# Altium schematic symbol library CONNECTORS_3D.SchLib: 60 symbols
Pins are listed as number, name and electrical type; pins without a type are passive.

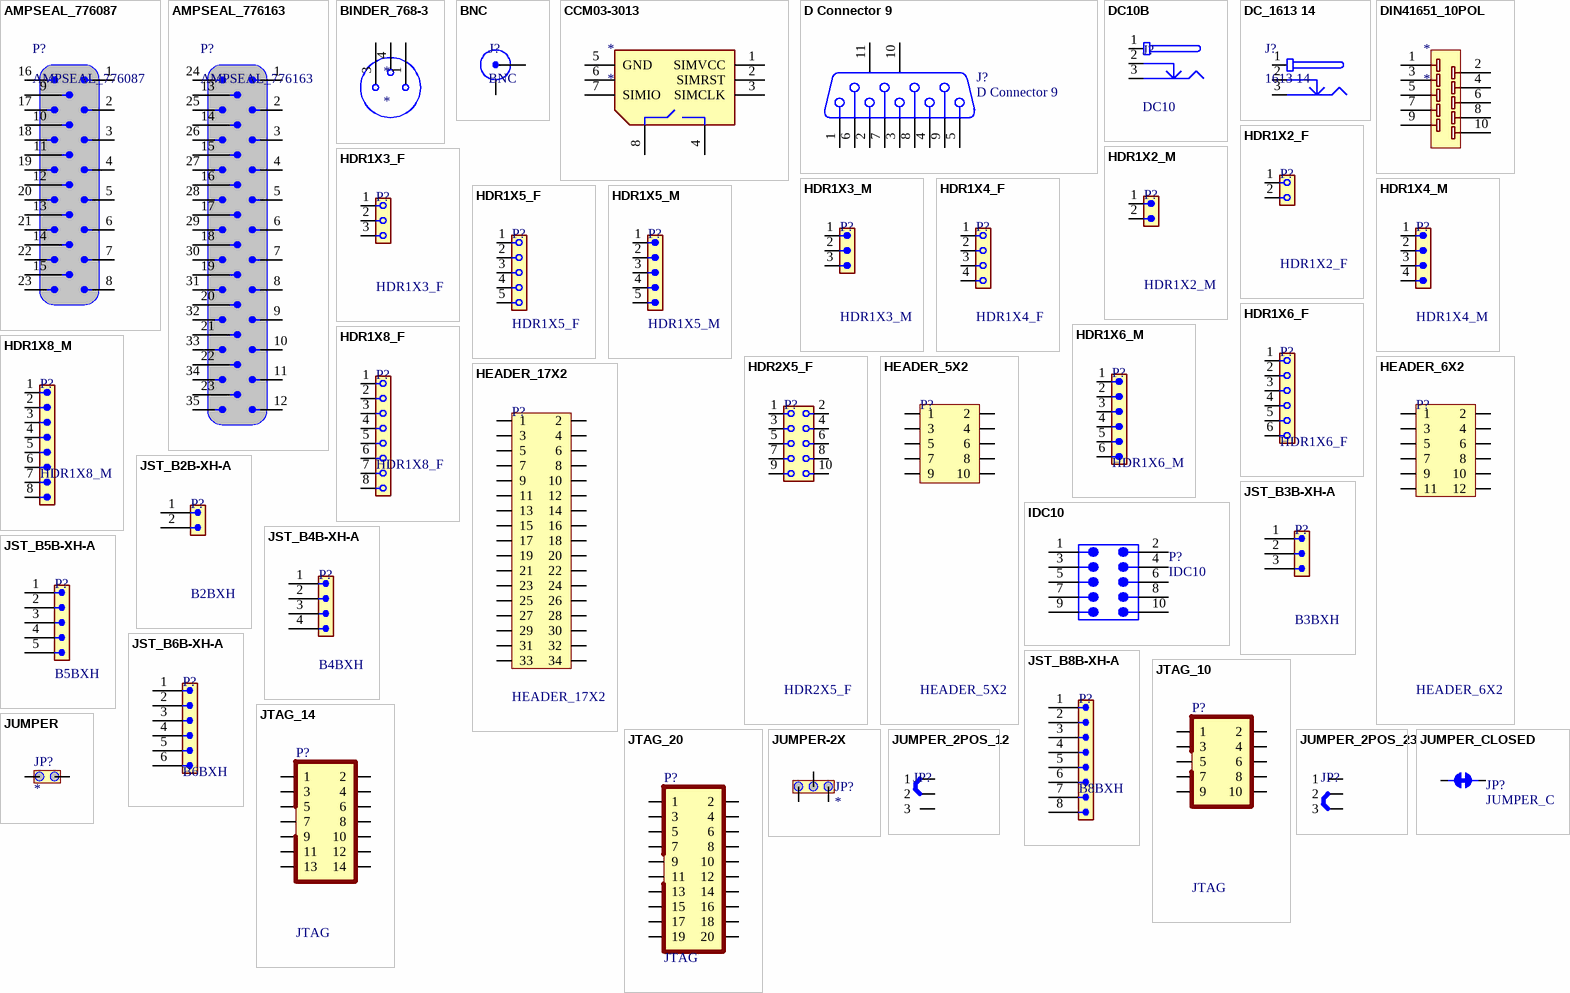
[diagram p0: symbols AMPSEAL_776087 to JUMPER_CLOSED]

## AMPSEAL_776087
designator P?
PCB Connector 23pos
footprint AMPSEAL_776087 (23 posistions, male)
pins: 1, 2, 3, 4, 5, 6, 7, 8, 9, 10, 11, 12, 13, 14, 15, 16, 17, 18, 19, 20, 21, 22, 23

## AMPSEAL_776163
designator P?
PCB Connector 35pos
footprint AMPSEAL_776163 (35 posistions, male)
pins: 1, 2, 3, 4, 5, 6, 7, 8, 9, 10, 11, 12, 13, 14, 15, 16, 17, 18, 19, 20, 21, 22, 23, 24, 25, 26, 27, 28, 29, 30, 31, 32, 33, 34, 35

## BINDER_768-3
designator *
footprint BINDER_768-3 (Chassis Jack 99-3412-282-03)
pins: 1, 3, 4

## BNC
designator J?
BNC-Connector
footprint BNC_VERT
footprint BNC_PCB90 (BNC TYCO 5227677)
footprint F_CON_RA (F-TYPE Right Angular)
pins: 1 SIG, 2 GND

## CCM03-3013
designator *
footprint CCM03-3013 (SIM-Card Holder)
pins: 1 SIMVCC, 2 SIMRST, 3 SIMCLK, 4 SW1, 5 GND, 6, 7 SIMIO, 8 SW2

## D Connector 9
designator J?
Receptacle Assembly, 9 Position, Right Angle; PackageDocument: O; Positions: 9; Published: 15-Jun-2001; LatestRevisionDate: 17-Jul-2002; LatestRevisionNote: Re-released for DXP Platform.; DatasheetDocument: 1-Sep-1999; PackageReference: 788750; Publisher: Altium Limited; Orientation: Right Angle; Gender: Receptacle
footprint DSUB1.385-2H9 (Connector; D Subminiature; 9 Position; Right Angle; Pitch 1.385 mm)
signal-integrity model Connector
pins: 1, 2, 3, 4, 5, 6, 7, 8, 9, 10 MH1, 11 MH2

## DC10B
designator J?, comment DC10
Low Voltage Power Supply Connector; Published: 17-Dec-2003; DatasheetDocument: 09-May-2002; Publisher: Altium Limited; ComponentLink1Description: Manufacturer Link; ComponentLink1URL: http://domino.kycon.com/internet/Products.html
footprint DC-10A (DC Connector, 5,5/2,1mm)
footprint DC-10A_SLIT (DC Connector, 5,5/2,1mm)
footprint DC-10B (DC Connector, 5,5/2,5mm)
footprint DC-10B_SLIT (DC Connector, 5,5/2,5mm)
pins: 1 (power), 2 (power), 3 (power)

## DC_1613 14
designator J?, comment 1613 14
Power supply connectors 2x6.5mm 24V 3.5A
pins: 1 (power), 2 (power), 3 (power)

## DIN41651_10POL
designator *
footprint DIN41651_10P (IDC, 10 Pos; Vertical; 2.54 mm; Body 20.32 x 9.2 x 9.45 mm)
pins: 1, 2, 3, 4, 5, 6, 7, 8, 9, 10

## HDR1X2_F
designator P?
Header, 2-Pin female; Publisher: Bep1
footprint HDR1X2_V_F (Header 2 pos, vertical, female)
pins: 1, 2

## HDR1X2_M
designator P?
Header, 2-Pin male; Publisher: Bep1
footprint HDR1X2_V_M (Connector; Header; 2 Position male)
pins: 1, 2

## HDR1X3_F
designator P?
Header, 3-Pin female; Publisher: Bep1
footprint HDR1X3_V_F (Header 3 pos, vertical, female)
pins: 1, 2, 3

## HDR1X3_M
designator P?
Header, 3-Pin male; LatestRevisionDate: 17-Jul-2002; LatestRevisionNote: Re-released for DXP Platform.; Publisher: Altium Limited
footprint HDR1X3_V_M (Connector; Header; 3 Position male)
pins: 1, 2, 3

## HDR1X4_F
designator P?
Header, 4-Pin female; Publisher: Bep1
footprint HDR1X4_V_F (Header 4 pos, vertical, female)
pins: 1, 2, 3, 4

## HDR1X4_M
designator P?
Header, 4-Pin male; Publisher: Bep1
footprint HDR1X4_V_M (Header 4 pos, vertical male)
pins: 1, 2, 3, 4

## HDR1X5_F
designator P?
Header, 5-Pin female; Publisher: Bep1
footprint HDR1X5_V_F (Header 5 pos, vertical, female)
pins: 1, 2, 3, 4, 5

## HDR1X5_M
designator P?
Header, 5-Pin male; Publisher: Bep1
footprint HDR1X5_V_M (Header 5 pos, vertical male)
pins: 1, 2, 3, 4, 5

## HDR1X6_F
designator P?
Header, 6-Pin female; Publisher: Bep1
footprint HDR1X6_V_F (Header 6 pos, vertical, female)
pins: 1, 2, 3, 4, 5, 6

## HDR1X6_M
designator P?
Header, 6-Pin male; Publisher: Bep1
footprint HDR1X6_V_M (Header 6 pos, vertical male)
pins: 1, 2, 3, 4, 5, 6

## HDR1X8_F
designator P?
Header, 8-Pin female; Publisher: Bep1
footprint HDR1X8_V_F (Connector; Header; 8 Position female)
pins: 1, 2, 3, 4, 5, 6, 7, 8

## HDR1X8_M
designator P?
Header, 8-Pin male; Publisher: Bep1
footprint HDR1X8_V_M (Connector; Header; 8 Position male)
pins: 1, 2, 3, 4, 5, 6, 7, 8

## HDR2X5_F
designator P?
Header, 10-Pin, Dual row; Publisher: Bep1
footprint HDR2X5_V_F (Header 5 pos, vertical, female)
pins: 1, 2, 3, 4, 5, 6, 7, 8, 9, 10

## HEADER_5X2
designator P?
Header, 10-Pin, Dual row; Publisher: Bep1
footprint HDR2X5_V_M (Connector; Header; 5x2 Position male)
pins: 1, 2, 3, 4, 5, 6, 7, 8, 9, 10

## HEADER_6X2
designator P?
Header, 12-Pin, Dual row; Publisher: Bep1
footprint HDR2X6_V_M (Connector; Header; 6x2 Position male)
pins: 1, 2, 3, 4, 5, 6, 7, 8, 9, 10, 11, 12

## HEADER_17X2
designator P?
Header, 34-Pin, Dual row; Publisher: Bep1
footprint HDR2X17 (Connector; Header; 17x2 Position; Symetrical Pins)
footprint HDR2X17_SYM (Connector; Header; 17x2 Position; Symetrical Pins)
pins: 1, 2, 3, 4, 5, 6, 7, 8, 9, 10, 11, 12, 13, 14, 15, 16, 17, 18, 19, 20, 21, 22, 23, 24, 25, 26, 27, 28, 29, 30, 31, 32, 33, 34

## IDC10
designator P?
IDC 10 (Harting 09 18 510 6329); PCB_Layout: Complies with manufacturer's recommendation.; DrillSize: Corresponds to nominal value.; Published: 15-Nov-2004; PackageDocument: Feb-2000; PackageReference: 918510x329; Publisher: Altium Limited; ComponentLink1Description: Manufacturer Link; ComponentLink1URL: http://www.harting.com/; ComponentLink2Description: Packaging Specification; ComponentLink2URL: http://www.harkis.harting.com/_sek/pdf/TB_0918510x329_BL01_R31897.pdf
footprint DIN41651_10P (IDC, 10 Pos; Vertical; 2.54 mm; Body 20.32 x 9.2 x 9.45 mm)
pins: 1, 2, 3, 4, 5, 6, 7, 8, 9, 10

## JST_B2B-XH-A
designator P?, comment B2BXH
Header, 2-Pin; LatestRevisionDate: 10-Jul-2013; Publisher: Bep1
footprint JST_B2B-XH-A (Header 2p, Pitch 2,5mm)
footprint JST_B2B-XH-A_GREY (Header 2p, Pitch 2,5mm)
pins: 1, 2

## JST_B3B-XH-A
designator P?, comment B3BXH
Header, 3-Pin; LastRevisionDate: 10 July 2013; Publisher: Bep1
footprint JST_B3B-XH-A (Header 3p, Pitch 2,5mm)
pins: 1, 2, 3

## JST_B4B-XH-A
designator P?, comment B4BXH
Header, 4-Pin; LatestRevisionDate: 10-Jul-2013; Publisher: Bep1
footprint JST_B4B-XH-A (Header 4p, Pitch 2,5mm)
footprint JST_B4B-XH-A_GREY (Header 4p, Pitch 2,5mm)
pins: 1, 2, 3, 4

## JST_B5B-XH-A
designator P?, comment B5BXH
Header, 5-Pin; LatestRevisionDate: 10-Jul-2013; Publisher: Bep1
footprint JST_B5B-XH-A (Header 5p, Pitch 2,5mm)
pins: 1, 2, 3, 4, 5

## JST_B6B-XH-A
designator P?, comment B6BXH
Header, 6-Pin; LatestRevisionDate: 10-Jul-2013; Publisher: Bep1
footprint JST_B6B-XH-A (Header 6p, Pitch 2,5mm)
pins: 1, 2, 3, 4, 5, 6

## JST_B8B-XH-A
designator P?, comment B8BXH
Header, 8-Pin; LatestRevisionDate: 10-Jul-2013; Publisher: Bep1
footprint JST_B8B-XH-A (Header 8p, Pitch 2,5mm)
pins: 1, 2, 3, 4, 5, 6, 7, 8

## JTAG_10
designator P?, comment JTAG
Header, 10-Pin, Dual row; LatestRevisionDate: 17-Jul-2002; LatestRevisionNote: Re-released for DXP Platform.; Publisher: Altium Limited
footprint JTAG_10 (IDC-Connector 2x5)
footprint JTAG_10_SMD (IDC-Connector 2x5)
pins: 1, 2, 3, 4, 5, 6, 7, 8, 9, 10

## JTAG_14
designator P?, comment JTAG
Header, 14-Pin, Dual row; LatestRevisionDate: 17-Jul-2002; LatestRevisionNote: Re-released for DXP Platform.; Publisher: Altium Limited
footprint JTAG_14 (IDC-Connector 2x7)
pins: 1, 2, 3, 4, 5, 6, 7, 8, 9, 10, 11, 12, 13, 14

## JTAG_20
designator P?, comment JTAG
Header, 20-Pin, Dual row; LatestRevisionDate: 17-Jul-2002; LatestRevisionNote: Re-released for DXP Platform.; Publisher: Altium Limited
footprint JTAG_20 (IDC-Connector 2x10)
pins: 1, 2, 3, 4, 5, 6, 7, 8, 9, 10, 11, 12, 13, 14, 15, 16, 17, 18, 19, 20

## JUMPER
designator JP?
Jumper; Values: *; Order Nbr: *; Distributor: *; Manufacturer: *; Divers: *; Price: *; Marking: *
footprint HDR1X2_V_M (Connector; Header; 2 Position male)
pins: 1, 2

## JUMPER-2X
designator JP?
Jumper-2X
footprint HDR1X3_V_M (Connector; Header; 3 Position male)
pins: 1, 2, 3

## JUMPER_2POS_12
designator JP?  (value not drawn)
Jumper, 2 Positions
footprint JP2_0603_POS12 (Jumper 2 Positions; Body 1.6 x 0.8 mm (LxW typ))
footprint JP2_0402_POS12 (Jumper 2 Positions; Body 1.1 x 0.5 mm (LxW typ))
pins: 1, 2, 3

## JUMPER_2POS_23
designator JP?  (value not drawn)
Jumper, 2 Positions
footprint JP2_0402_POS23 (Jumper 2 Positions; Body 1.1 x 0.5 mm (LxW typ))
footprint JP2_0603_POS23 (Jumper 2 Positions; Body 1.6 x 0.8 mm (LxW typ))
pins: 1, 2, 3

## JUMPER_CLOSED
designator JP?, comment JUMPER_C  (net tie, no BOM)
Jumper closed; Werte: *; Divers: *
footprint JUMPER-CLOSED (Jumper closed PCB 2mm)
pins: 1, 2

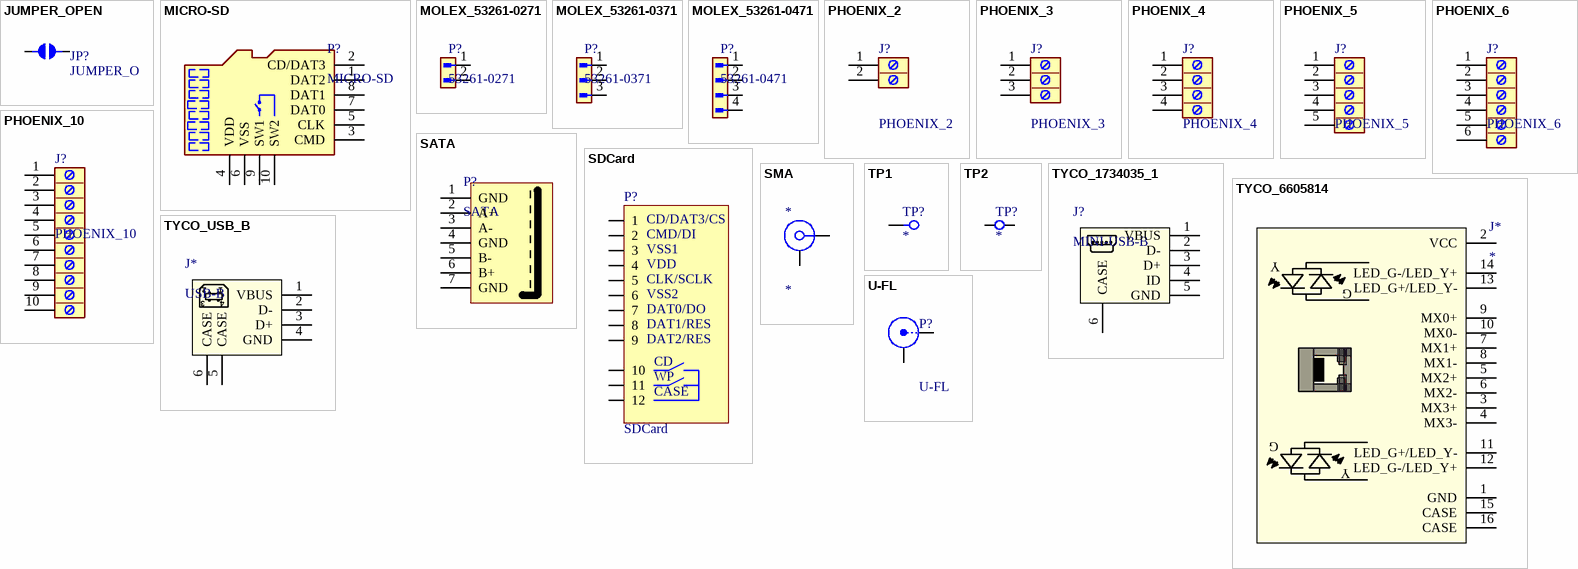
[diagram p1: symbols JUMPER_OPEN to U-FL]

## JUMPER_OPEN
designator JP?, comment JUMPER_O  (net tie, no BOM)
Jumper open; Werte: *; Divers: *
footprint JUMPER-OPEN (Jumper closed PCB 2mm)
pins: 1, 2

## MICRO-SD
designator P?
MICRO-SD Card Holder
footprint MICRO-SD_503182 (MOLEX SD-503182-0853)
pins: 1 DAT2, 2 CD/DAT3, 3 CMD, 4 VDD (power), 5 CLK, 6 VSS (power), 7 DAT0, 8 DAT1, 9 SW1, 10 SW2

## MOLEX_53261-0271
designator P?, comment 53261-0271
footprint MOLEX_53261-0271 (MOLEX, 053261-0271, 2-Lead)
pins: 1, 2

## MOLEX_53261-0371
designator P?, comment 53261-0371
footprint MOLEX_53261-0371 (MOLEX, 053261-0371, 3-Lead)
pins: 1, 2, 3

## MOLEX_53261-0471
designator P?, comment 53261-0471
footprint MOLEX_53261-0471 (MOLEX, 053261-0471, 4-Lead)
pins: 1, 2, 3, 4

## PHOENIX_2
designator J?
Printklemmen 4polig
footprint PHOENIX_2 (Connector 2 ways with screws)
pins: 1, 2

## PHOENIX_3
designator J?
Printklemmen 3polig
footprint PHOENIX_3 (Connector 3 ways with screws)
pins: 1, 2, 3

## PHOENIX_4
designator J?
Printklemmen 4polig
footprint PHOENIX_4 (Connector 4 ways with screws)
pins: 1, 2, 3, 4

## PHOENIX_5
designator J?
Printklemmen 5polig
footprint PHOENIX_5 (Connector 5 ways with screws)
pins: 1, 2, 3, 4, 5

## PHOENIX_6
designator J?
Printklemmen 6polig
footprint PHOENIX_6 (Connector 6 ways with screws)
pins: 1, 2, 3, 4, 5, 6

## PHOENIX_10
designator J?
Printklemmen 10polig
footprint PHOENIX_10 (Connector 6 ways with screws)
pins: 1, 2, 3, 4, 5, 6, 7, 8, 9, 10

## SATA
designator P?
footprint SATA_3M_Vert (SATA Plug Vertical Through-Hole, 3M 5607-5102-SH)
pins: 1 GND, 2 A+, 3 A-, 4 GND, 5 B-, 6 B+, 7 GND

## SDCard
designator P?
SD/MMC Card; LatestRevisionDate: 17-Jul-2002; LatestRevisionNote: Re-released for DXP Platform.; Publisher: Altium Limited
footprint SDCard_3M (SD/MMC Card Holder)
pins: 1, 2, 3, 4, 5, 6, 7, 8, 9, 10, 11, 12
text: CD/DAT3/CS; CMD/DI; VSS1; VDD; CLK/SCLK; VSS2; DAT0/DO; DAT1/RES; DAT2/RES; CD; WP; CASE

## SMA
designator *
GPS Antenna
footprint SMA_RA (Samtec3dPS-SMA-TH)
footprint SMA_V (Samtec-SMA-J-P-H-ST-TH1)
footprint SMA_END_LAUNCH (Board (1.6mm) End Connector)
pins: 1, 2

## TP1
designator TP?
Test-Point; Values: *; Order Nbr: *; Distributor: *; Manufacturer: *; Divers: *; Price: *; Marking: *
footprint TP_TOP (Test Point on TOP)
footprint TP_S (TP_TOP=1,5 / BOT=0,8)
pins: 1 TP

## TP2
designator TP?
Test-Point (in-line); Werte: *; Best. Nr.: *; Lieferant: *; Hersteller: *; Divers: *; Preis: *
footprint TP_TOP (Test Point on TOP)
footprint TP_S (TP_TOP=1,5 / BOT=0,8)
pins: 1 TP

## TYCO_1734035_1
designator J?, comment MINI-USB-B
Mini USB B Connector
footprint MINI_USB_TYPE_B (USB Connector (mini B))
pins: 1 VBUS, 2 D-, 3 D+, 4 ID, 5 GND, 6 CASE

## TYCO_6605814
designator J*
RJ45
footprint RJ45_TYCO_6605814
pins: 1 GND, 2 VCC, 3 MX3+, 4 MX3-, 5 MX2+, 6 MX2-, 7 MX1+, 8 MX1-, 9 MX0+, 10 MX0-, 11 LED_G+/LED_Y-, 12 LED_G-/LED_Y+, 13 LED_G+/LED_Y-, 14 LED_G-/LED_Y+, 15 CASE, 16 CASE
text: Y; G

## TYCO_USB_B
designator J*, comment USB-B
Mini USB B Connector
footprint USB-B - Tyco (USB connector Type B, Tyco, 292304-1)
pins: 1 VBUS, 2 D-, 3 D+, 4 GND, 5 CASE, 6 CASE

## U-FL
designator P?
BNC Elbow Connector; LatestRevisionDate: 17-Jul-2002; LatestRevisionNote: Re-released for DXP Platform.; Publisher: Altium Limited
footprint U-FL-R-SMT-01 (HIROSE U.FL-R-SMT(01))
pins: 1 X, 2 Y